# EAGLE library part ONE-SIDED (library con-dec)
One-sided DEC Flip-Chip single card fingers
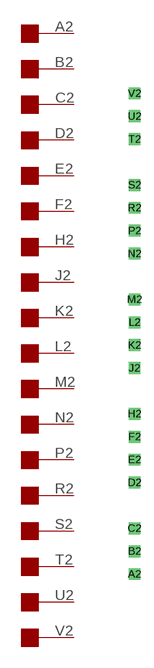
[diagram p1: symbol with the pads of ONE-SIDED; footprint ONE-SIDED]

Designator prefix -

## ONE-SIDED  [ONE-SIDED]
A2  A2  pas
B2  B2  pas
C2  C2  pas
D2  D2  pas
E2  E2  pas
F2  F2  pas
H2  H2  pas
J2  J2  pas
K2  K2  pas
L2  L2  pas
M2  M2  pas
N2  N2  pas
P2  P2  pas
R2  R2  pas
S2  S2  pas
T2  T2  pas
U2  U2  pas
V2  V2  pas

## Footprint ONE-SIDED (pad centres in mm)
One-sided DEC Flip-Chip single card fingers
drill 0.813 square: A2 20.256,5.175; B2 20.256,7.715; C2 20.256,10.255; D2 20.256,15.335; E2 20.256,17.875; F2 20.256,20.415; H2 20.256,22.955; J2 20.256,28.035; K2 20.256,30.575; L2 20.256,33.115; M2 20.256,35.655; N2 20.256,40.735; P2 20.256,43.275; R2 20.256,45.815; S2 20.256,48.355; T2 20.256,53.435; U2 20.256,55.975; V2 20.256,58.515